# Altium schematic symbol library electronpowered.SchLib: 132 symbols
Pins are listed as number, name and electrical type; pins without a type are passive.

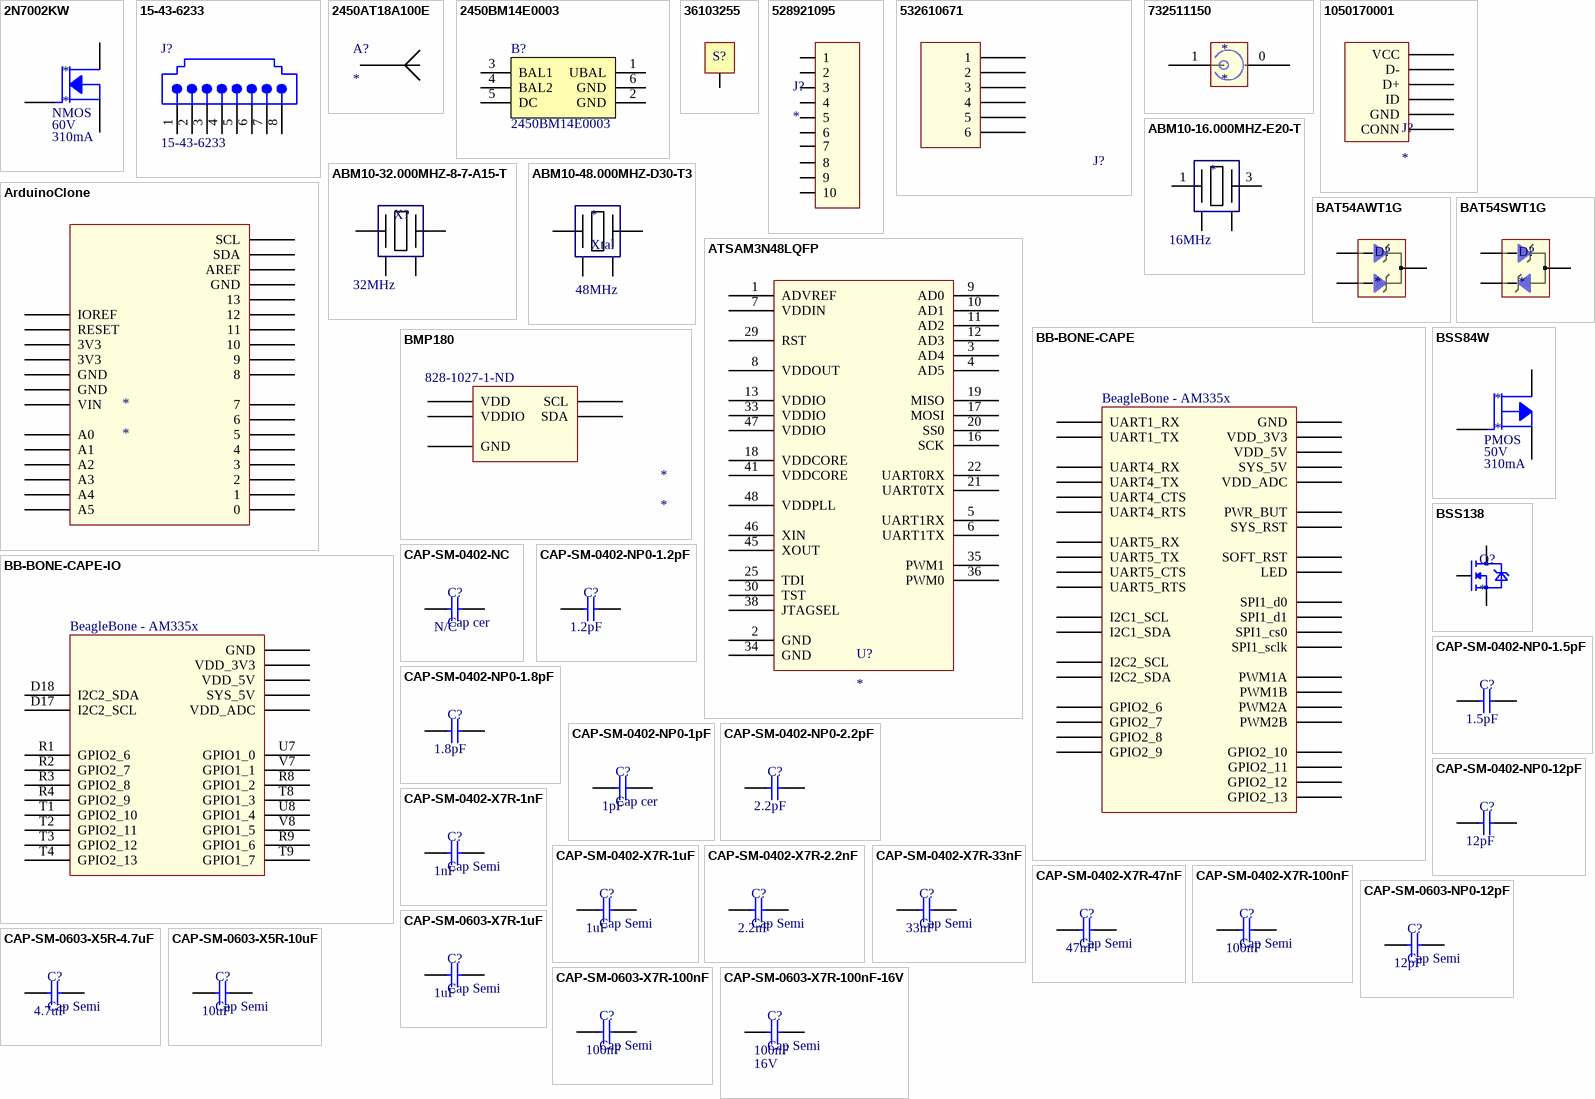
[diagram p0: symbols 2N7002KW to CAP-SM-0603-X7R-100nF-16V]

## 2N7002KW
designator *  Vdss: 60V  Id: 310mA  Type: NMOS
FET SM NCH 60V 310mA SOT323; Supplier 1: Digi-Key; Supplier Part Number 1: 2N7002KWCT-ND
footprint SOT-323
pins: 1, 2, 3

## 15-43-6233
designator J?
CONN TH RJ45 RA flange Mount PCB Jack; Ports: 1; Positions/Loaded: Port1 - 8 Keyed/8; PerformanceCategory: 3; PCB_Mounting: Thru-Hole; DrillSize: Nominal, Rounded to nearest 0.05mm; PCB_Layout: Complies with Manufacturer's Recommendation.; Published: 25-Jun-2002; DatasheetDocument: 18-Dec-2001; PackageDocument: 18-Dec-2001; PackageReference: 15-43-6233; Publisher: Altium Limited; ComponentLink1Description: Manufacturer Link; ComponentLink1URL: http://www.molex.com/
signal-integrity model Modular Jack
footprint RJ-45 Header (Connector; PCB Jack, Thru-Hole; 1-Port; Unshielded without Lightpipes; Right Angle)
pins: 1, 2, 3, 4, 5, 6, 7, 8

## 2450AT18A100E
designator A?
RF ANT SM CHIP 2.4GHZ; Supplier 1: Farnell; Supplier 2: Digi-Key; Supplier Part Number 1: 1885496; Supplier Part Number 2: 712-1005-1-ND
footprint 2450AT18A100E (ANTENNA CHIP 2.4GHZ)
pins: 1

## 2450BM14E0003
designator B?
IC BALUN nRF51822 2.45 GHz; Manufacturer: Johanson Technology; Note: Optimized for nRF51x22-QFAA; Artikkelnr Noca: N.A.; Part Number: 2450BM14E0003; Manufacturer Part Number: 2450BM14E0003; Datasheet: *; Footprint: BAL-0603-6pin; LatestRevisionDate: 2014-03-31; Pin Count: 6; Publisher: Nordic Semiconductor; Published: 2013-10-06; Value: 2450BM14E0003; Supplier: *; Supplier part number: *; 2nd source Supplier: *; 2nd source part number: *
footprint 2450BM14E0003
pins: 1 UBAL, 2 GND, 3 BAL1, 4 BAL2, 5 DC, 6 GND (power)

## 36103255
designator S?  (value not drawn)
SHIELD RF SMT 25X25MM
footprint 36103255 (WURTH RF SHIELD 25x25)
pins: 0

## 528921095
designator J?
CONN SMT FPC 0.5MM 10POS 528921095
footprint MOLEX-528921095 (CONN FPC 10POS 0.5MM)
pins: 1, 2, 3, 4, 5, 6, 7, 8, 9, 10

## 532610671
designator J?  (value not drawn)
CONN SM PICOBLADE 6POS
footprint MOLEX -532610671
pins: 1, 2, 3, 4, 5, 6

## 732511150
designator *
CONN SMA PCB EDGE MOLEX 73251-1150
footprint MOLEX_732511150 (SMA EDGE)
pins: 0 GND, 1 SIG

## 1050170001
designator J?
CONN SM TH USB MICRO MODIFIED FOR DRILL; Details: Modified from reference footprint for standard drill hits (rather than slots)
footprint 1050170001 (CONN USB MICRO MOLEX MODIFIED FOR DRILL HITS)
pins: 0 CONN, 1 VCC, 2 D-, 3 D+, 4 ID, 5 GND

## ABM10-16.000MHZ-E20-T
designator *, comment value 16MHz  (hidden comment: Xtal)
XTAL SMT 2.5x2.0mm 16MHz; Load Capacitance: 10pF; Frequency Stability: 20ppm; Frequency Tolerance: 20ppm
footprint XTAL 2.5x2.0mm (XTAL 2.5x2.0mm Standard Package)
pins: 1, 2, 3, 4

## ABM10-32.000MHZ-8-7-A15-T
designator X?, comment value 32MHz  (hidden comment: Xtal)
XTAL SMT 2.5x2.0mm 32MHz; Load Capacitance: 8pF; Frequency Stability: 15ppm; Frequency Tolerance: 15ppm
footprint XTAL 2.5x2.0mm (XTAL 2.5x2.0mm Standard Package)
pins: 1, 2, 3, 4

## ABM10-48.000MHZ-D30-T3
designator *, comment Xtal  value 48MHz
XTAL SMT 2.5x2.0mm 48MHz; Load Capacitance: 10pF; Supplier 1: Digi-Key; Supplier 2: Mouser; Supplier Part Number 1: 535-10938-1-ND; Supplier Part Number 2: 815-ABM10-48-D30T3
footprint XTAL 2.5x2.0mm (XTAL 2.5x2.0mm Standard Package)
pins: 1, 2, 3, 4

## ArduinoClone
designator *
footprint ArduinoClone (Base for Arduino-like boards.)
pins: 0, 1, 2, 3, 3V3, 3V3, 4, 5, 6, 7, 8, 9, 10, 11, 12, 13, A0, A1, A2, A3, A4, A5, AREF, GND, GND, GND, IOREF, RESET, SCL, SDA, VIN

## ATSAM3N48LQFP
designator U?
IC Atmel Cortex-M3; Manufacturer Part Number: ATSAM3N48LQFP; Manufacturer: Atmel
footprint 48A_L (48-Pin Thin Quad Flat Pack 0.5 mm Pitch, IPC High Density)
pins: 1 ADVREF, 2 GND, 3 AD4, 4 AD5, 5 UART1RX, 6 UART1TX, 7 VDDIN, 8 VDDOUT, 9 AD0, 10 AD1, 11 AD2, 12 AD3, 13 VDDIO, 16 SCK, 17 MOSI, 18 VDDCORE, 19 MISO, 20 SS0, 21 UART0TX, 22 UART0RX, 25 TDI, 29 RST, 30 TST, 33 VDDIO, 34 GND, 35 PWM1, 36 PWM0, 38 JTAGSEL, 41 VDDCORE, 45 XOUT, 46 XIN, 47 VDDIO, 48 VDDPLL

## BAT54AWT1G
designator D?
IC SCHOTTKY RECTIFIER, 200mA, 30V, SOT-323; Supplier 1: Farnell; Supplier 2: Digi-Key; Supplier Part Number 1: 1861208; Supplier Part Number 2: BAT54AWT1GOSCT-ND
footprint SOT-323
pins: 1, 2, 3

## BAT54SWT1G
designator D?
IC SCHOTTKY RECTIFIER, 200mA, 30V, SOT-323; Supplier 1: Farnell; Supplier 2: Digi-Key; Supplier Part Number 1: 2101837; Supplier Part Number 2: BAT54SWT1GFSCT-ND
footprint SOT-323
pins: 1, 2, 3

## BB-BONE-CAPE
designator *
BeagleBone cape layout
footprint bone_cape_minimal
pins: A13 SPI1_sclk "SPI0_sclk", A16 I2C1_SCL, B13 SPI1_d0 "SPI0_d0", B16 I2C1_SDA, C12 SPI1_cs0 "SPI0_cs0", D12 SPI1_d1 "SPI0_d1", D15 UART1_TX, D16 UART1_RX, D17 I2C2_SCL, D18 I2C2_SDA, GND, PWR_BUT "PWR_BUT, active low.", R1 GPIO2_6 "UART0_RX", R2 GPIO2_7 "UART0_TX", R3 GPIO2_8 "UART0_CTS", R4 GPIO2_9 "UART0_RTS", SYS_5V, SYS_RST "System Reset", T1 GPIO2_10 "UART1_RX", T2 GPIO2_11 "UART1_TX", T3 GPIO2_12 "UART1_CTS", T4 GPIO2_13 "UART1_RTS", T10 PWM2B "UART1_RTS", T14 PWM1B "UART1_TX", T17 UART4_RX "UART0_RX", U1 UART5_TX "UART0_TX", U2 UART5_RX "UART0_RX", U7 SOFT_RST, U10 PWM2A "UART1_CTS", U14 PWM1A "UART1_RX", U17 UART4_TX "UART0_TX", V2 UART4_CTS "UART0_CTS", V3 UART4_RTS "UART0_RTS", V3 UART5_RTS "UART0_RTS", V4 UART5_CTS "UART0_CTS", V7 LED, VDD_3V3 "VDD_3V3EXP", VDD_5V, VDD_ADC "VDD_ADC(1.8v)"
text: BeagleBone - AM335x

## BB-BONE-CAPE-IO
designator *
BeagleBone Cape IO component
footprint bone_cape_minimal
pins: D17 I2C2_SCL, D18 I2C2_SDA, GND, R1 GPIO2_6, R2 GPIO2_7, R3 GPIO2_8, R4 GPIO2_9, R8 GPIO1_2, R9 GPIO1_6, SYS_5V, T1 GPIO2_10, T2 GPIO2_11, T3 GPIO2_12, T4 GPIO2_13, T8 GPIO1_3, T9 GPIO1_7, U7 GPIO1_0, U8 GPIO1_4, V7 GPIO1_1, V8 GPIO1_5, VDD_3V3 "VDD_3V3EXP", VDD_5V, VDD_ADC "VDD_ADC(1.8v)"
text: BeagleBone - AM335x

## BMP180
designator *  Supplier Part Number 1: 828-1027-1-ND
BMP180 Bosch pressure sensor; Supplier 1: Digi-Key
footprint BMP180; pin to pad GND>7 SCL>5 SDA>6 VDD>2 VDDIO>3
pins: GND, SCL, SDA, VDD, VDDIO

## BSS84W
designator *  Type: PMOS  Vdss: 50V  Id: 310mA
FET SM PCH 50V 130mA SOT323; Supplier 1: Digi-Key; Supplier 2: Farnell; Supplier Part Number 1: BSS84WDICT-ND; Supplier Part Number 2: 1713836
footprint SOT-323
pins: 1, 2, 3

## BSS138
designator Q?
FET SM NCH 50V 220mA SOT23-3L; Type: NMOS; Vdss: 50V; Id: 220mA
footprint SOT-23-3L (SOT-23-3Las used in BSS138)
pins: 1, 2, 3

## CAP-SM-0402-NC
designator C?, comment Cap cer  value N/C
CAP SM 0402 N/C; Tolerance: ±0.1pF
footprint SMT0402 (0402 foorprint SMT)
pins: 1, 2

## CAP-SM-0402-NP0-1.2pF
designator C?, comment value 1.2pF  (hidden comment: Cap cer)
CAP SM 0402 NP0 1.2pF ±0.1pF; Tolerance: ±0.1pF; Supplier 1: Digi-Key; Supplier 2: Farnell; Supplier Part Number 1: 490-8085-1-ND; Supplier Part Number 2: 1889198
footprint SMT0402 (0402 foorprint SMT)
pins: 1, 2

## CAP-SM-0402-NP0-1.5pF
designator C?, comment value 1.5pF  (hidden comment: Cap cer)
CAP SM 0402 NP0 1.5pF ± 0.1pF; Tolerance: ±0.1pF; Supplier 1: Digi-Key; Supplier 2: Farnell; Supplier Part Number 1: 490-8087-1-ND; Supplier Part Number 2: 1889201
footprint SMT0402 (0402 foorprint SMT)
pins: 1, 2

## CAP-SM-0402-NP0-1.8pF
designator C?, comment value 1.8pF  (hidden comment: Cap cer)
CAP SM 0402 NP0 1.8pF ± 0.1pF; Tolerance: ±0.1pF; Supplier 1: Farnell; Supplier 2: Digi-Key; Supplier Part Number 1: 1889202; Supplier Part Number 2: 490-8089-1-ND
footprint SMT0402 (0402 foorprint SMT)
pins: 1, 2

## CAP-SM-0402-NP0-1pF
designator C?, comment Cap cer  value 1pF
CAP SM 0402 NP0 1pF ±0.1pF; Tolerance: ±0.1pF; Supplier 1: Digi-Key; Supplier Part Number 1: 490-6073-1-ND
footprint SMT0402 (0402 foorprint SMT)
pins: 1, 2

## CAP-SM-0402-NP0-2.2pF
designator C?, comment value 2.2pF  (hidden comment: Cap cer)
CAP SM 0402 NP0 2.2pF ± 0.1pF; Tolerance: ±0.1pF; Supplier 1: Farnell; Supplier 2: Digi-Key; Supplier Part Number 1: 1889204; Supplier Part Number 2: 490-8092-1-ND
footprint SMT0402 (0402 foorprint SMT)
pins: 1, 2

## CAP-SM-0402-NP0-12pF
designator C?, comment value 12pF  (hidden comment: Cap cer)
CAP SM 0402 NP0 12pF 2%; Tolerance: ±2%; Supplier 1: Farnell; Supplier 2: Digi-Key; Supplier Part Number 1: 1889213; Supplier Part Number 2: 490-8078-1-ND
footprint SMT0402 (0402 foorprint SMT)
pins: 1, 2

## CAP-SM-0402-X7R-1nF
designator C?, comment Cap Semi  value 1nF
CAP SM 0402 X7R 1nF 10%; Tolerance: ±10%; Supplier 1: Digi-Key; Supplier Part Number 1: 490-6349-1-ND
footprint SMT0402 (0402 foorprint SMT)
pins: 1, 2

## CAP-SM-0402-X7R-1uF
designator C?, comment Cap Semi  value 1uF
CAP SM 0402 X7R 1uF 10%; Tolerance: ±10%; Supplier 1: Digi-Key; Supplier Part Number 1: 490-7195-1-ND
footprint SMT0402 (0402 foorprint SMT)
pins: 1, 2

## CAP-SM-0402-X7R-2.2nF
designator C?, comment Cap Semi  value 2.2nF
CAP SM 0402 X7R 2.2nF 10%; Tolerance: ±10%; Supplier 1: Digi-Key; Supplier Part Number 1: 490-6359-2-ND
footprint SMT0402 (0402 foorprint SMT)
pins: 1, 2

## CAP-SM-0402-X7R-33nF
designator C?, comment Cap Semi  value 33nF
CAP SM 0402 X7R 33nF 10%; Tolerance: ±10%; Supplier 1: Digi-Key; Supplier Part Number 1: 490-6345-1-ND
footprint SMT0402 (0402 foorprint SMT)
pins: 1, 2

## CAP-SM-0402-X7R-47nF
designator C?, comment Cap Semi  value 47nF
CAP SM 0402 X7R 47nF 10%; Tolerance: ±10%; Supplier 1: Digi-Key; Supplier Part Number 1: 490-7762-1-ND
footprint SMT0402 (0402 foorprint SMT)
pins: 1, 2

## CAP-SM-0402-X7R-100nF
designator C?, comment Cap Semi  value 100nF
CAP SM 0402 X7R 100nF 10%; Tolerance: ±10%; Supplier 1: Digi-Key; Supplier 2: Farnell; Supplier Part Number 1: 490-1519-1-ND; Supplier Part Number 2: 8820023
footprint SMT0402 (0402 foorprint SMT)
pins: 1, 2

## CAP-SM-0603-NP0-12pF
designator C?, comment Cap Semi  value 12pF
CAP SM 0603 NP0 12pF 10%; Tolerance: ±10%
footprint SMT0603
pins: 1, 2

## CAP-SM-0603-X5R-4.7uF
designator C?, comment Cap Semi  value 4.7uF
CAP SM 0603 X5R 4.7uF 10%; Tolerance: ±10%; Supplier 1: Digi-Key; Supplier 2: Farnell; Supplier Part Number 1: 490-3297-1-ND; Supplier Part Number 2: 1907504
footprint SMT0603
pins: 1, 2

## CAP-SM-0603-X5R-10uF
designator C?, comment Cap Semi  value 10uF
CAP SM 0603 X5R 10uF 10%; Tolerance: ±10%; Supplier 1: Farnell; Supplier 2: Digi-Key; Supplier Part Number 1: 2366833; Supplier Part Number 2: 490-3896-1-ND
footprint SMT0603
pins: 1, 2

## CAP-SM-0603-X7R-1uF
designator C?, comment Cap Semi  value 1uF
CAP SM 0603 X7R 1uF 10%; Tolerance: ±10%; Supplier 1: Digi-Key; Supplier 2: Farnell; Supplier Part Number 1: 490-5307-1-ND; Supplier Part Number 2: 2366834
footprint SMT0603
pins: 1, 2

## CAP-SM-0603-X7R-100nF
designator C?, comment Cap Semi  value 100nF
CAP SM 0603 X7R 100nF 10%; Tolerance: ±10%; Supplier 1: Digi-Key; Supplier 2: Farnell; Supplier Part Number 1: 490-3167-1-ND; Supplier Part Number 2: 1775994RL
footprint SMT0603
pins: 1, 2

## CAP-SM-0603-X7R-100nF-16V
designator C?, comment Cap Semi  value 100nF  Voltage: 16V
CAP SM 0603 X7R 100nF 10% 16V; Tolerance: ±10%; Supplier 1: Digi-Key; Supplier 2: Farnell; Supplier Part Number 1: 490-1532-1-ND; Supplier Part Number 2: 2396550
footprint SMT0603
pins: 1, 2

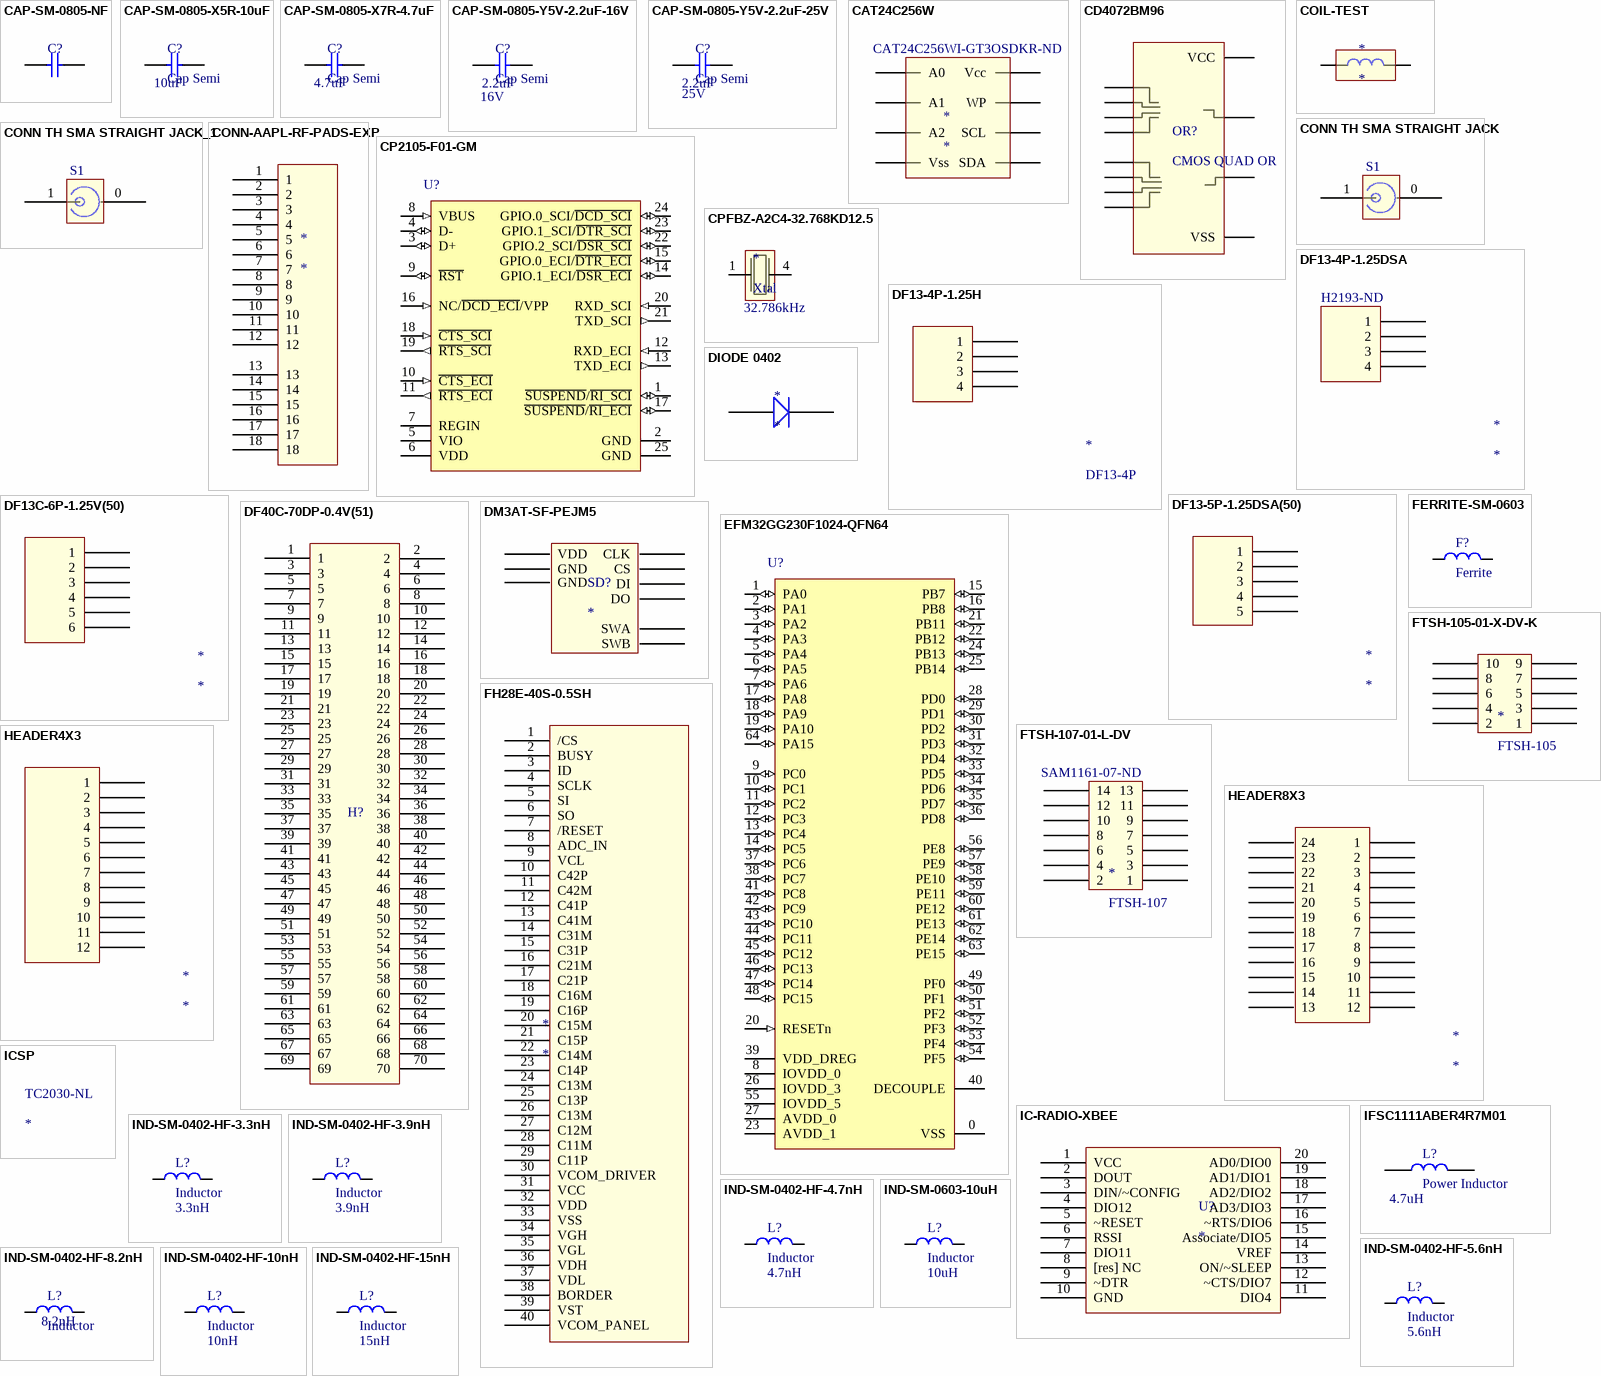
[diagram p1: symbols CAP-SM-0805-NF to IND-SM-0603-10uH]

## CAP-SM-0805-NF
designator C?
CAP SM 0805 NF
footprint SMT0805
pins: 1, 2

## CAP-SM-0805-X5R-10uF
designator C?, comment Cap Semi  value 10uF
CAP SM 0805 X5R 10uF 10%; Tolerance: ±10%; Supplier 1: Digi-Key; Supplier 2: Farnell; Supplier Part Number 1: 490-1709-1-ND; Supplier Part Number 2: 2396552
footprint SMT0805
pins: 1, 2

## CAP-SM-0805-X7R-4.7uF
designator C?, comment Cap Semi  value 4.7uF
CAP SM 0805 X7R 4.7uF 10%; Tolerance: ±10%; Supplier 1: Digi-Key; Supplier 2: Farnell; Supplier Part Number 1: 490-4522-1-ND; Supplier Part Number 2: 1797015RL
footprint SMT0805
pins: 1, 2

## CAP-SM-0805-Y5V-2.2uF-16V
designator C?, comment Cap Semi  value 2.2uF  Voltage Rating: 16V
CAP SM 0805 Y5V MLCC 2.2uF 16V 10%; Tolerance: ±10%; Supplier 1: Digi-Key; Supplier 2: Farnell; Supplier Part Number 1: 490-1741-1-ND; Supplier Part Number 2: 1828852RL
footprint SMT0805
pins: 1, 2

## CAP-SM-0805-Y5V-2.2uF-25V
designator C?, comment Cap Semi  value 2.2uF  Voltage Rating: 25V
CAP SM 0805 Y5V MLCC 2.2uF 25V 10%; Tolerance: ±10%; Supplier 1: Digi-Key; Supplier 2: Farnell; Supplier Part Number 1: 490-1733-1-ND; Supplier Part Number 2: 9527702
footprint SMT0805
pins: 1, 2

## CAT24C256W
designator *  Supplier Part Number 1: CAT24C256WI-GT3OSDKR-ND
IC EEPROM (Beaglebone standard); Supplier 1: Digi-Key
footprint SOIC8N (Small Outline; 8 Leads; Body Width 3.9 mm; Pitch 1.27 mm)
pins: 1 A0, 2 A1, 3 A2, 4 Vss, 5 SDA, 6 SCL, 7 WP, 8 Vcc

## CD4072BM96
designator OR?, comment CMOS QUAD OR
IC LOGIC GATE DUAL QUAD OR; Supplier 1: Digi-Key; Supplier 2: Farnell; Supplier Part Number 1: 296-31518-1-ND; Supplier Part Number 2: 1753434
footprint 14SOIC
pins: 1, 1, 2, 3, 4, 7 VSS, 9, 10, 11, 12, 13, 14 VCC

## COIL-TEST
designator *
footprint TEST_COIL
pins: 1, 2

## CONN TH SMA STRAIGHT JACK
designator S1  (value not drawn)
Manufacturer Part: SPC20113; Component Name: TH COAX SMA STRAIGHT JACK SPC20113; Placement: PTH; Notes: Does schematic symbol need JST and size info? Should it just be position?; Key: CONNECTOR26; Creator: Ryan Kurte; Status: Prototype
footprint CONN_TH_RF_SMA
footprint CONN_TH_RF_SMA_REFLOW
pins: 0 GND, 1 SIG

## CONN TH SMA STRAIGHT JACK_1
designator S1, comment CONN TH SMA STRAIGHT JACK  (value not drawn)
Manufacturer Part: SPC20113; Component Name: TH COAX SMA STRAIGHT JACK SPC20113; Placement: PTH; Notes: Does schematic symbol need JST and size info? Should it just be position?; Key: CONNECTOR26; Creator: Ryan Kurte; Status: Prototype
footprint CONN_TH_RF_SMA
footprint CONN_TH_RF_SMA_REFLOW
pins: 0 GND, 1 SIG

## CONN-AAPL-RF-PADS-EXP
designator *
footprint APPLE-RF-CONN (Apple RF connector pad footprint)
pins: 1, 2, 3, 4, 5, 6, 7, 8, 9, 10, 11, 12, 13, 14, 15, 16, 17, 18

## CP2105-F01-GM
designator U?
Single-Chip USB to Dual UART Bridge, 5 Dig I/O Pins, Internal Oscillator, 296 Bytes EEPROM, -40 to 85 degC, 24-pin QFN; Manufacturer: Silicon Labs; PartNumber: CP2105-F01-GM; Internal Oscillator: TRUE; Sub-Family: USB Bridges; DatasheetVersion: Rev. 1.0; PackageReference: QFN-24; PackageDescription: 24-Pin Quad-Flat No-Leads Package, Body 4 x 4 mm, Pitch 0.5 mm; Supplier 1: Digi-Key; Supplier Part Number 1: 336-2009-5-ND; Supplier 2: Mouser; Supplier Part Number 2: 634-CP2105-F01-GM; EEPROM: 296 Bytes; Mounting Technology: Surface Mount; Code_JEDEC: MO-220; Code_IPC: J-STD-020; ComponentLink1Description: Manufacturer URL; ComponentLink1URL: http://www.silabs.com/; ComponentLink2Description: Datasheet; ComponentLink2URL: http://www.silabs.com/Support%20Documents/TechnicalDocs/CP2105.pdf; ComponentLink3Description: Package Specification; ComponentLink3URL: http://www.silabs.com/Support%20Documents/TechnicalDocs/C8051F93x-92x.pdf
footprint SLAB-QFN-24-2675x2675TP_N (QFN, 24-Leads, Body 4x4mm, Pitch 0.5mm, Thermal Pad 2.68x2.68mm, IPC Medium Density)
pins: 1 ~{SUSPEND}/~{RI_SCI} (io), 2 GND (power) "Ground. Must be tied to ground.", 3 D+ (io) "USB D+", 4 D- (io) "USB D-", 5 VIO (power) "I/O Supply Voltage Input.", 6 VDD (power) "Power Supply Voltage Input. Voltage Regulator Output. See Section 10.", 7 REGIN (power) "5 V Regulator Input. This pin is the input to the on-chip voltage regulator.", 8 VBUS (in) "VBUS Sense Input. This pin should be connected to the VBUS signal of a USB network.", 9 ~{RST} (io) "Device Reset. Open-drain output of internal POR or VDD monitor. An external source can initiate a system reset by driving this pin low for the time specified in Table 4.", 10 ~{CTS_ECI} (in) "Clear To Send control input (active low) for the Enhanced Comm Interface.", 11 ~{RTS_ECI} (out) "Ready to Send control output (active low) for the Enhanced Comm Interface.", 12 RXD_ECI (in) "Asynchronous data input (UART Receive) for the Enhanced Comm Interface.", 13 TXD_ECI (out) "Asynchronous data output (UART Transmit) for the Enhanced Comm Interface.", 14 GPIO.1_ECI/~{DSR_ECI} (io), 15 GPIO.0_ECI/~{DTR_ECI} (io), 16 NC/~{DCD_ECI}/VPP (in), 17 ~{SUSPEND}/~{RI_ECI} (io), 18 ~{CTS_SCI} (in) "Clear To Send control input (active low) for the Standard Comm Interface.", 19 ~{RTS_SCI} (out) "Ready to Send control output (active low) for the Standard Comm Interface.", 20 RXD_SCI (in) "Asynchronous data input (UART Receive) for the Standard Comm Interface.", 21 TXD_SCI (out) "Asynchronous data output (UART Transmit) for the Standard Comm Interface.", 22 GPIO.2_SCI/~{DSR_SCI} (io), 23 GPIO.1_SCI/~{DTR_SCI} (io), 24 GPIO.0_SCI/~{DCD_SCI} (io), 25 GND (power)

## CPFBZ-A2C4-32.768KD12.5
designator *, comment Xtal  value 32.786kHz
XTAL TUNING 32.786kHz CPFB; Supplier 1: Digi-Key; Supplier Part Number 1: 370-1056-1-ND
footprint CPFB (CPF Crystal)
pins: 1, 4

## DF13-4P-1.25DSA
designator *  Supplier Part Number 1: H2193-ND
CONN SM DF13 4-POS SKT; Supplier 1: Digi-Key
footprint DF13C4P
footprint DF13-4P (4 Pin DF13 through hole)
pins: 1, 2, 3, 4

## DF13-4P-1.25H
designator *, comment DF13-4P
CONN SM DF13 4P RA 1.25H; Supplier 1: Farnell; Supplier 2: Digi-Key; Supplier Part Number 1: 1324926; Supplier Part Number 2: H3352-ND
footprint DF134-4P SMT R/A (CONN HEADER 4POS 1.25MM R/A TIN)
pins: 1, 2, 3, 4

## DF13-5P-1.25DSA(50)
designator *
CONN SM DF13 5POS SKT
footprint DF13-5P (5 Pin DF13 through hole)
pins: 1, 2, 3, 4, 5

## DF13C-6P-1.25V(50)
designator *
CONN SM DF13C 6P
footprint DF13C6P
footprint DF13-6P (6 Pin DF13 through hole)
pins: 1, 2, 3, 4, 5, 6

## DF40C-70DP-0.4V(51)
designator H?  (value not drawn)
CONN RCPT SM HDR 70POS 0.4MM SMD
footprint DF40C(2.0)-70DS-0.4V(51)
pins: 1, 2, 3, 4, 5, 6, 7, 8, 9, 10, 11, 12, 13, 14, 15, 16, 17, 18, 19, 20, 21, 22, 23, 24, 25, 26, 27, 28, 29, 30, 31, 32, 33, 34, 35, 36, 37, 38, 39, 40, 41, 42, 43, 44, 45, 46, 47, 48, 49, 50, 51, 52, 53, 54, 55, 56, 57, 58, 59, 60, 61, 62, 63, 64, 65, 66, 67, 68, 69, 70

## DIODE 0402
designator *
pins: 0, 1

## DM3AT-SF-PEJM5
designator SD?
CONN SM MicroSD; Supplier 1: Farnell; Supplier 2: Digi-Key; Supplier Part Number 1: 1764374; Supplier Part Number 2: HR1964CT-ND
footprint DM3AT-SF-PEJM5 (Hirose uSD connector SMT)
pins: 1 CS, 2 DI, 3 GND, 4 VDD, 5 CLK, 6 GND, 7 DO, A SWA, B SWB

## EFM32GG230F1024-QFN64
designator U?
EFM32 Giant Gecko, M3 ARM Cortex CPU, 1024 KB Flash, 128 KB RAM, 1.85 - 3.8 V Supply, 48 MHz Max Speed, -40 to 85 degC, 64-Pin QFN, RoHS Compliant; Generic Part Number: EFM32GG230; PartNumber: EFM32GG230F1024-QFN64; Flash (KB): 1024; GPIO: 56; LESENSE: Y; Max Speed (MHz): 48; OPAMPS: 3; RAM (KB): 128; DatasheetVersion: Rev 1.00; PackageVersion: Rev. 98SPP64048A_XO1_08MAR2011; PackageReference: QFN64; PackageDescription: 64-Pin Quad Flat No-Lead, Body 9 x 9 mm, Pitch 0.5 mm; Supplier 1: Digi-Key; Supplier Part Number 1: 914-1043-1-ND; ARM Cortex CPU: M3; Subcategory: EFM32 Giant Gecko; Supply Voltage (V): 1.85 - 3.8; Mounting Technology: Surface Mount; ComponentLink1Description: Manufacturer URL; ComponentLink1URL: http://www.energymicro.com/; ComponentLink2Description: Datasheet; ComponentLink2URL: http://cdn.energymicro.com/dl/devices/pdf/d0035_efm32gg230_datasheet.pdf; ComponentLink3Description: Package Specification; ComponentLink3URL: http://cdn.energymicro.com/dl/devices/pdf/d0005_efm32g230_datasheet.pdf
footprint ENMR-QFN64_N (QFN, 64-Leads, Body 9x9mm, Pitch 0.5mm, IPC Medium Density)
pins: 0 VSS (power) "Ground", 1 PA0 (io) "TIM0_CC0#0/1/4, LEU0_RX#4, I2C0_SDA#0, PRS_CH0#0, GPIO_EM4WU0", 2 PA1 (io) "TIM0_CC1#0/1, I2C0_SCL#0, CMU_CLK1#0, PRS_CH1#0", 3 PA2 (io) "TIM0_CC2#0/1, CMU_CLK0#0, ETM_TD0#3", 4 PA3 (io) "TIM0_CDTI0#0, LES_ALTEX2#0, ETM_TD1#3", 5 PA4 (io) "TIM0_CDTI1#0, LES_ALTEX3#0, ETM_TD2#3", 6 PA5 (io) "TIM0_CDTI2#0, LEU1_TX#1, LES_ALTEX4#0, ETM_TD3#3", 7 PA6 (io) "LEU1_RX#1, ETM_TCLK#3, GPIO_EM4WU1", 8 IOVDD_0 (power) "Digital IO power supply 0.", 9 PC0 (io) "DAC0_OUT0ALT#0/OPAMP_OUT0ALT, ACMP0_CH0, TIM0_CC1#4, PCNT0_S0IN#2, US0_TX#5, US1_TX#0, I2C0_SDA#4, LES_CH0#0, PRS_CH2#0", 10 PC1 (io) "DAC0_OUT0ALT#1/OPAMP_OUT0ALT, ACMP0_CH1, TIM0_CC2#4, PCNT0_S1IN#2, US0_RX#5, US1_RX#0, I2C0_SCL#4, LES_CH1#0, PRS_CH3#0", 11 PC2 (io) "DAC0_OUT0ALT#2/OPAMP_OUT0ALT, ACMP0_CH2, TIM0_CDTI0#4, US2_TX#0, LES_CH2#0", 12 PC3 (io) "DAC0_OUT0ALT#3/OPAMP_OUT0ALT, ACMP0_CH3, TIM0_CDTI1#4, US2_RX#0, LES_CH3#0", 13 PC4 (io) "DAC0_P0#0/OPAMP_P0, ACMP0_CH4, TIM0_CDTI2#4, LETIM0_OUT0#3, PCNT1_S0IN#0, US2_CLK#0, I2C1_SDA#0, LES_CH4#0", 14 PC5 (io) "DAC0_N0#0/OPAMP_N0, ACMP0_CH5, LETIM0_OUT1#3, PCNT1_S1IN#0, US2_CS#0, I2C1_SCL#0, LES_CH5#0", 15 PB7 (io) "LFXTAL_P, TIM1_CC0#3, US0_TX#4, US1_CLK#0", 16 PB8 (io) "LFXTAL_N, TIM1_CC1#3, US0_RX#4, US1_CS#0", 17 PA8 (io) "TIM2_CC0#0", 18 PA9 (io) "TIM2_CC1#0", 19 PA10 (io) "TIM2_CC2#0", 20 RESETn (in) "Reset input.Active low, with internal pull-up.", 21 PB11 (io) "DAC0_OUT0#0/OPAMP_OUT0, TIM1_CC2#3, LETIM0_OUT0#1, I2C1_SDA#1", 22 PB12 (io) "DAC0_OUT1#0/OPAMP_OUT1, LETIM0_OUT1#1, I2C1_SCL#1", 23 AVDD_1 (power) "Analog power supply 1 .", 24 PB13 (io) "HFXTAL_P, US0_CLK#4/5, LEU0_TX#1", 25 PB14 (io) "HFXTAL_N, US0_CS#4/5, LEU0_RX#1", 26 IOVDD_3 (power) "Digital IO power supply 3.", 27 AVDD_0 (power) "Analog power supply 0", 28 PD0 (io) "ADC0_CH0, DAC0_OUT0ALT#4/OPAMP_OUT0ALT, DAC0_OUT2#1/PCNT2_S0IN#0, US1_TX#1, OPAMP_OUT2", 29 PD1 (io) "ADC0_CH1, DAC0_OUT1ALT#4/OPAMP_OUT1ALT, TIM0_CC0#3, PCNT2_S1IN#0, US1_RX#1, DBG_SWO#2", 30 PD2 (io) "ADC0_CH2, TIM0_CC1#3, US1_CLK#1, DBG_SWO#3", 31 PD3 (io) "ADC0_CH3, DAC0_N2#0/OPAMP_N2, TIM0_CC2#3, US1_CS#1, ETM_TD1#0/2", 32 PD4 (io) "ADC0_CH4, DAC0_P2#0/OPAMP_P2, LEU0_TX#0, ETM_TD2#0/2", 33 PD5 (io) "ADC0_CH5, DAC0_OUT2#0/OPAMP_OUT2, LEU0_RX#0, ETM_TD3#0/2", 34 PD6 (io) "ADC0_CH6, DAC0_P1#0/OPAMP_P1, TIM1_CC0#4, LETIM0_OUT0#0, PCNT0_S0IN#3, US1_RX#2, I2C0_SDA#1, LES_ALTEX0#0, ACMP0_O#2, ETM_TD0#0", 35 PD7 (io) "ADC0_CH7, DAC0_N1#0/OPAMP_N1, TIM1_CC1#4, LETIM0_OUT1#0, PCNT0_S1IN#3, US1_TX#2, I2C0_SCL#1, CMU_CLK0#2, LES_ALTEX1#0, ACMP1_O#2, ETM_TCLK#0", 36 PD8 (io) "BU_VIN, CMU_CLK1#1", 37 PC6 (io) "ACMP0_CH6, LEU1_TX#0, I2C0_SDA#2, LES_CH6#0, ETM_TCLK#2", 38 PC7 (io) "ACMP0_CH7, LEU1_RX#0, I2C0_SCL#2, LES_CH7#0, ETM_TD0#2", 39 VDD_DREG (power) "Power supply for on-chip voltage regulator.", 40 DECOUPLE "Decouple output for on-chip voltage regulator. An external capacitance of size CDECOUPLE is required at this pin.", 41 PC8 (io) "ACMP1_CH0, TIM2_CC0#2, US0_CS#2, LES_CH8#0", 42 PC9 (io) "ACMP1_CH1, TIM2_CC1#2, US0_CLK#2, LES_CH9#0, GPIO_EM4WU2", 43 PC10 (io) "ACMP1_CH2, TIM2_CC2#2, US0_RX#2, LES_CH10#0", 44 PC11 (io) "ACMP1_CH3, US0_TX#2, LES_CH11#0", 45 PC12 (io) "DAC0_OUT1ALT#0/OPAMP_OUT1ALT, ACMP1_CH4, CMU_CLK0#1, LES_CH12#0", 46 PC13 (io) "DAC0_OUT1ALT#1/OPAMP_OUT1ALT, ACMP1_CH5, TIM0_CDTI0#1/3, TIM1_CC0#0, TIM1_CC2#4, PCNT0_S0IN#0, LES_CH13#0", 47 PC14 (io) "DAC0_OUT1ALT#2/OPAMP_OUT1ALT, ACMP1_CH6, TIM0_CDTI1#1/3, TIM1_CC1#0, PCNT0_S1IN#0, US0_CS#3, LES_CH14#0", 48 PC15 (io) "DAC0_OUT1ALT#3/OPAMP_OUT1ALT, ACMP1_CH7, TIM0_CDTI2#1/3, TIM1_CC2#0, US0_CLK#3, LES_CH15#0, DBG_SWO#1", 49 PF0 (io) "TIM0_CC0#5, LETIM0_OUT0#2, US1_CLK#2, LEU0_TX#3, I2C0_SDA#5, DBG_SWCLK#0/1/2/3", 50 PF1 (io) "TIM0_CC1#5, LETIM0_OUT1#2, US1_CS#2, LEU0_RX#3, I2C0_SCL#5, DBG_SWDIO#0/1/2/3, GPIO_EM4WU3", 51 PF2 (io) "TIM0_CC2#5, LEU0_TX#4, ACMP1_O#0, DBG_SWO#0, GPIO_EM4WU4", 52 PF3 (io) "TIM0_CDTI0#2/5, PRS_CH0#1, ETM_TD3#1", 53 PF4 (io) "TIM0_CDTI1#2/5, PRS_CH1#1", 54 PF5 (io) "TIM0_CDTI2#2/5, PRS_CH2#1", 55 IOVDD_5 (power) "Digital IO power supply 5", 56 PE8 (io) "PCNT2_S0IN#1, PRS_CH3#1", 57 PE9 (io) "PCNT2_S1IN#1", 58 PE10 (io) "TIM1_CC0#1, US0_TX#0, BOOTLOADER_TX", 59 PE11 (io) "TIM1_CC1#1, US0_RX#0, LES_ALTEX5#0, BOOTLOADER_RX", 60 PE12 (io) "TIM1_CC2#1, US0_RX#3, US0_CLK#0, I2C0_SDA#6, CMU_CLK1#2, LES_ALTEX6#0", 61 PE13 (io) "US0_TX#3, US0_CS#0, I2C0_SCL#6, LES_ALTEX7#0, ACMP0_O#0, GPIO_EM4WU5", 62 PE14 (io) "TIM3_CC0#0, LEU0_TX#2", 63 PE15 (io) "TIM3_CC1#0, LEU0_RX#2", 64 PA15 (io) "TIM3_CC2#0"

## FERRITE-SM-0603
designator F?, comment Ferrite
FERRITE SM 0603; Tolerance: ±20%; Imax: 50mA; Value: 10uH
footprint SMT0603
pins: 1, 2

## FH28E-40S-0.5SH
designator *
CONN RCPT SM FPC 40POS 0.5MM PITCH 3MM THICK; Supplier 1: Farnell; Supplier 2: Digi-Key; Supplier Part Number 1: 1518742; Supplier Part Number 2: HFV040CT-ND
footprint FH28E-40S-0.5SH (CONN FPC 40POS 0.5MM SMD GOLD)
pins: 1 /CS, 2 BUSY, 3 ID, 4 SCLK, 5 SI, 6 SO, 7 /RESET, 8 ADC_IN, 9 VCL, 10 C42P, 11 C42M, 12 C41P, 13 C41M, 14 C31M, 15 C31P, 16 C21M, 17 C21P, 18 C16M, 19 C16P, 20 C15M, 21 C15P, 22 C14M, 23 C14P, 24 C13M, 25 C13P, 26 C13M, 27 C12M, 28 C11M, 29 C11P, 30 VCOM_DRIVER, 31 VCC, 32 VDD, 33 VSS, 34 VGH, 35 VGL, 36 VDH, 37 VDL, 38 BORDER, 39 VST, 40 VCOM_PANEL

## FTSH-105-01-X-DV-K
designator *, comment FTSH-105
CONN HDR SM FTSH-105 10POS DUAL .05"; Supplier 1: Farnell; Supplier Part Number 1: 1667759; Supplier 2: Digi-Key; Supplier Part Number 2: FTSH-105-01-L-DV-K-ND
footprint FTSH-105-XX-X-DV-K (1.27mm pitch, 10 pin, terminal strip; vertical, SMT)
pins: 1, 2, 3, 4, 5, 6, 7, 8, 9, 10

## FTSH-107-01-L-DV
designator *, comment FTSH-107  Supplier Part Number 2: SAM1161-07-ND
CONN HDR SM FTSH-107 14POS DUAL .05"; Supplier 1: Farnell; Supplier Part Number 1: 2308439; Supplier 2: Digi-Key
footprint FTSH-107-XX-X-DV (1.27mm pitch, 14 pin, terminal strip; vertical, SMT)
pins: 1, 2, 3, 4, 5, 6, 7, 8, 9, 10, 11, 12, 13, 14

## HEADER4X3
designator *
footprint HEADER4X3
pins: 1, 2, 3, 4, 5, 6, 7, 8, 9, 10, 11, 12

## HEADER8X3
designator *
footprint HEADER8X3
pins: 1, 2, 3, 4, 5, 6, 7, 8, 9, 10, 11, 12, 13, 14, 15, 16, 17, 18, 19, 20, 21, 22, 23, 24

## IC-RADIO-XBEE
designator U?
CONN XBEE TH
footprint XBee Standard
pins: 1 VCC, 2 DOUT, 3 DIN/~CONFIG, 4 DIO12, 5 ~RESET, 6 RSSI, 7 DIO11, 8 [res] NC, 9 ~DTR, 10 GND, 11 DIO4, 12 ~CTS/DIO7, 13 ON/~SLEEP, 14 VREF, 15 Associate/DIO5, 16 ~RTS/DIO6, 17 AD3/DIO3, 18 AD2/DIO2, 19 AD1/DIO1, 20 AD0/DIO0

## ICSP
designator TC2030-NL
footprint TC2030-MCP
footprint TC2030-MCP-NL
1 alternate drawing of the same symbol

## IFSC1111ABER4R7M01
designator L?, comment Power Inductor  value 4.7uH
IND PWR SM 4.7uH; Supplier 1: Farnell; Supplier 2: Digi-Key; Supplier Part Number 1: 2352670; Supplier Part Number 2: 541-1400-1-ND
footprint IFSC1111ABER4R7M01 (Vishay Dale SMD power inductor)
pins: 1, 2

## IND-SM-0402-HF-3.3nH
designator L?, comment Inductor  value 3.3nH
IND SM 0402 CHIP HF 3.3nH 5%; Tolerance: ±5%; Supplier 1: Farnell; Supplier 2: Digi-Key; Supplier Part Number 1: 1343068; Supplier Part Number 2: 490-6561-1-ND
footprint SMT0402 (0402 foorprint SMT)
pins: 1, 2

## IND-SM-0402-HF-3.9nH
designator L?, comment Inductor  value 3.9nH
IND SM 0402 CHIP HF 3.9nH 5%; Tolerance: ±5%; Supplier 1: Digi-Key; Supplier 2: Farnell; Supplier Part Number 1: 490-1079-1-ND; Supplier Part Number 2: 1343070
footprint SMT0402 (0402 foorprint SMT)
pins: 1, 2

## IND-SM-0402-HF-4.7nH
designator L?, comment Inductor  value 4.7nH
IND SM 0402 CHIP HF 4.7nH 5%; Tolerance: ±5%; Supplier 1: Digi-Key; Supplier 2: Farnell; Supplier Part Number 1: 490-1080-1-ND; Supplier Part Number 2: 1343072
footprint SMT0402 (0402 foorprint SMT)
pins: 1, 2

## IND-SM-0402-HF-5.6nH
designator L?, comment Inductor  value 5.6nH
IND SM 0402 CHIP HF 5.6nH 5%; Tolerance: ±5%; Supplier 1: Farnell; Supplier 2: Digi-Key; Supplier Part Number 1: 1343074; Supplier Part Number 2: 490-1081-1-ND
footprint SMT0402 (0402 foorprint SMT)
pins: 1, 2

## IND-SM-0402-HF-8.2nH
designator L?, comment Inductor  value 8.2nH
IND SM 0402 CHIP HF 8.2nH 5%; Tolerance: ±5%; Supplier 1: Digi-Key; Supplier 2: Farnell; Supplier Part Number 1: 490-1084-1-ND; Supplier Part Number 2: 1343079
footprint SMT0402 (0402 foorprint SMT)
pins: 1, 2

## IND-SM-0402-HF-10nH
designator L?, comment Inductor  value 10nH
IND SM 0402 CHIP HF 10nH 5%; Tolerance: ±5%; Supplier 1: Digi-Key; Supplier 2: Farnell; Supplier Part Number 1: 490-1085-1-ND; Supplier Part Number 2: 1343081
footprint SMT0402 (0402 foorprint SMT)
pins: 1, 2

## IND-SM-0402-HF-15nH
designator L?, comment Inductor  value 15nH
IND SM 0402 CHIP HF 15nH 10%; Tolerance: ±10%; Supplier 1: Digi-Key; Supplier 2: Farnell; Supplier Part Number 1: 490-1087-1-ND; Supplier Part Number 2: 1343083
footprint SMT0402 (0402 foorprint SMT)
pins: 1, 2

## IND-SM-0603-10uH
designator L?, comment Inductor  value 10uH
IND SM 0603 10uH 20%; Imax: 50mA; Tolerance: ±20%; Supplier 1: Digi-Key; Supplier 2: Farnell; Supplier Part Number 1: 445-1025-1-ND; Supplier Part Number 2: 1669541
footprint SMT0603
pins: 1, 2

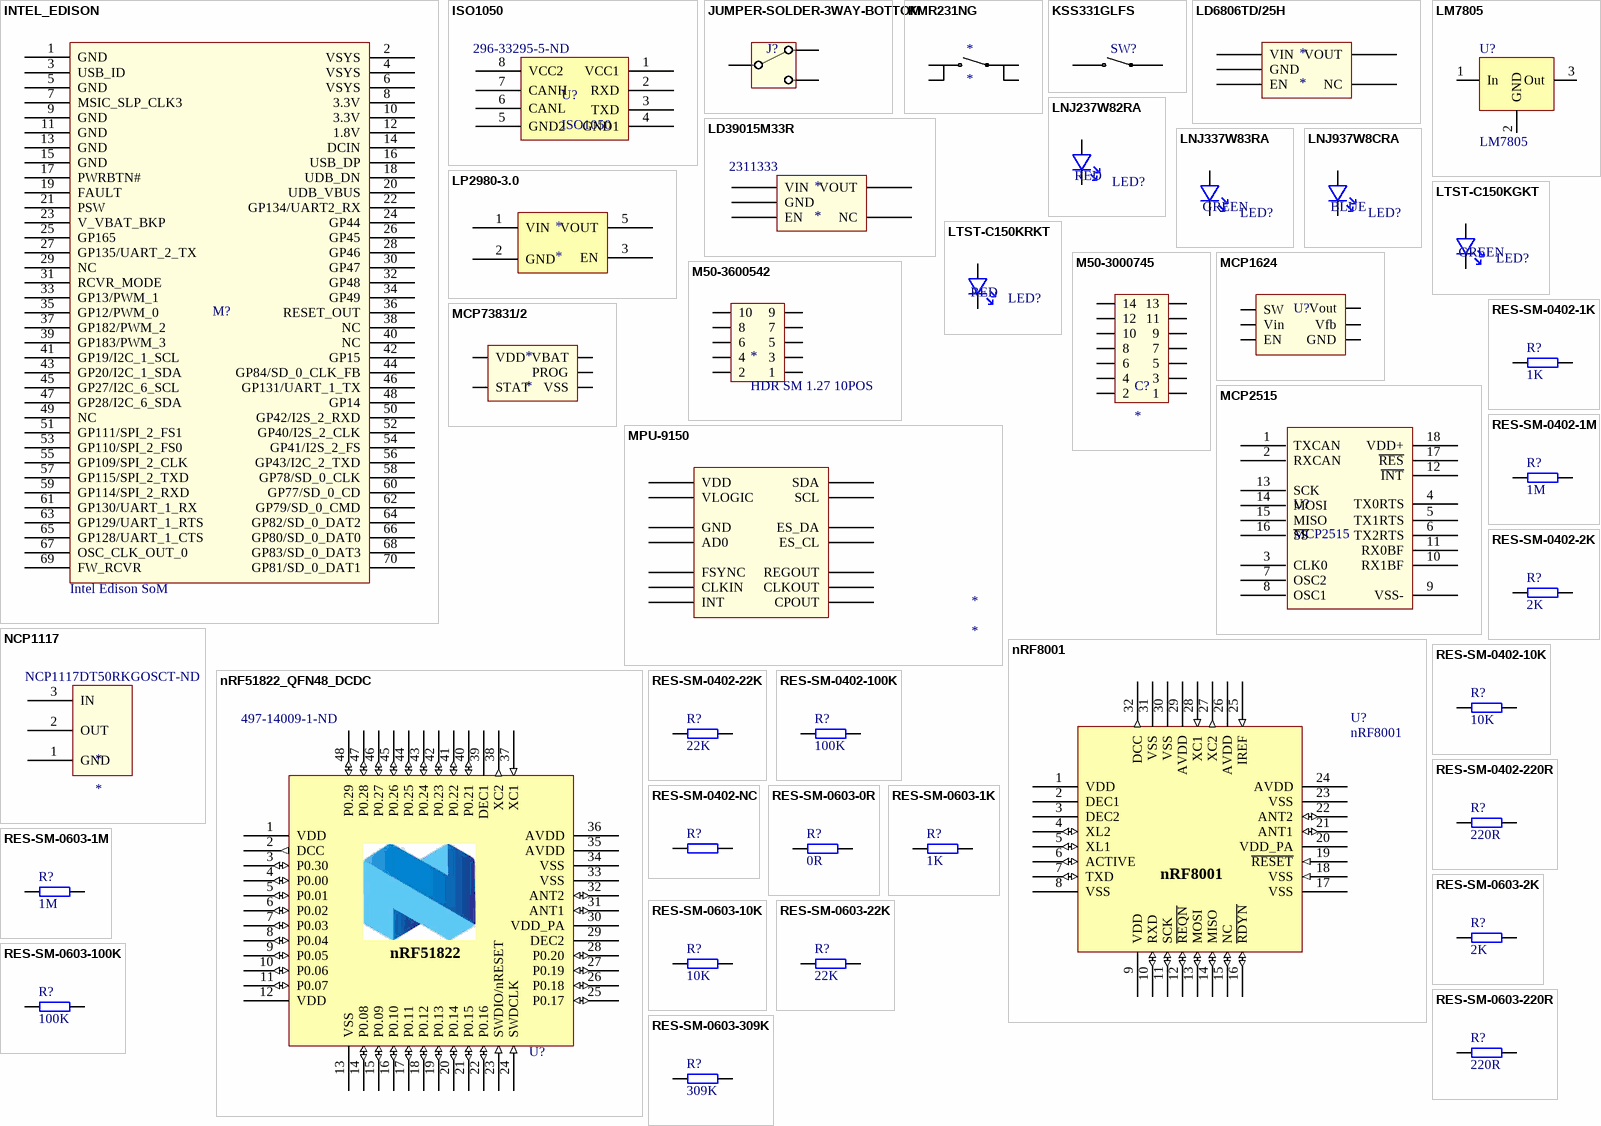
[diagram p2: symbols INTEL_EDISON to RES-SM-0603-309K]

## INTEL_EDISON
designator M?  value Intel Edison SoM  (hidden comment: *)
INTEL EDISON SoM
footprint INTEL-EDISON (Intel Edison SBC)
pins: 1 GND, 2 VSYS, 3 USB_ID, 4 VSYS, 5 GND, 6 VSYS, 7 MSIC_SLP_CLK3, 8 3.3V, 9 GND, 10 3.3V, 11 GND, 12 1.8V, 13 GND, 14 DCIN, 15 GND, 16 USB_DP, 17 PWRBTN#, 18 UDB_DN, 19 FAULT, 20 UDB_VBUS, 21 PSW, 22 GP134/UART2_RX, 23 V_VBAT_BKP, 24 GP44, 25 GP165, 26 GP45, 27 GP135/UART_2_TX, 28 GP46, 29 NC, 30 GP47, 31 RCVR_MODE, 32 GP48, 33 GP13/PWM_1, 34 GP49, 35 GP12/PWM_0, 36 RESET_OUT, 37 GP182/PWM_2, 38 NC, 39 GP183/PWM_3, 40 NC, 41 GP19/I2C_1_SCL, 42 GP15, 43 GP20/I2C_1_SDA, 44 GP84/SD_0_CLK_FB, 45 GP27/I2C_6_SCL, 46 GP131/UART_1_TX, 47 GP28/I2C_6_SDA, 48 GP14, 49 NC, 50 GP42/I2S_2_RXD, 51 GP111/SPI_2_FS1, 52 GP40/I2S_2_CLK, 53 GP110/SPI_2_FS0, 54 GP41/I2S_2_FS, 55 GP109/SPI_2_CLK, 56 GP43/I2C_2_TXD, 57 GP115/SPI_2_TXD, 58 GP78/SD_0_CLK, 59 GP114/SPI_2_RXD, 60 GP77/SD_0_CD, 61 GP130/UART_1_RX, 62 GP79/SD_0_CMD, 63 GP129/UART_1_RTS, 64 GP82/SD_0_DAT2, 65 GP128/UART_1_CTS, 66 GP80/SD_0_DAT0, 67 OSC_CLK_OUT_0, 68 GP83/SD_0_DAT3, 69 FW_RCVR, 70 GP81/SD_0_DAT1

## ISO1050
designator U?  Supplier Part Number 1: 296-33295-5-ND
ISOLATED CAN TRANSCEIVER; Supplier 1: Digi-Key
footprint SOG8 (Small Outline; 8 Leads; Body Width 6.4 mm; Pitch 2.54 mm)
pins: 1 VCC1, 2 RXD, 3 TXD, 4 GND1, 5 GND2, 6 CANL, 7 CANH, 8 VCC2

## JUMPER-SOLDER-3WAY-BOTTOM
designator J?  (value not drawn)
footprint JUMPER-SOLDER-3WAY-BOTTOM (3WAY SOLDER JUMPER BOTTOM LAYER)
pins: 0, 1, 2

## KMR231NG
designator *
PB SW SM TOP; Supplier 1: Digi-Key; Supplier Part Number 1: CKN10246CT-ND
footprint KMR231NG (PB SW SM TOP)
pins: 1, 2, 3, 4

## KSS331GLFS
designator SW?  (value not drawn)
PB SW SM RA; Supplier 1: Farnell; Supplier Part Number 1: 1201407; Supplier 2: Digi-Key; Supplier Part Number 2: 401-1101-1-ND
footprint KSS331G LFS (C & K COMPONENTS - KSS331G LFS - TACT SWITCH, SIDE ACTUATED, LOW)
pins: 1, 2

## LD6806TD/25H
designator *
IC LDO 2V5 200mA; Supplier 1: Farnell; Supplier 2: Digi-Key; Supplier Part Number 1: 2095497; Supplier Part Number 2: 568-10029-1-ND
footprint SOT753
pins: 1 VIN, 2 GND, 3 EN, 4 NC, 5 VOUT

## LD39015M33R
designator *  Supplier Part Number 1: 2311333
IC REG LIN 3V3 150MA; Supplier 1: Farnell
footprint SOT23-5 (SOT143-4 as used in SP0503BAHTG)
pins: 1 VIN, 2 GND, 3 EN, 4 NC, 5 VOUT

## LM7805
designator U?
IC REG LIN 5V 1A
footprint TO220V
pins: 1 In, 2 GND, 3 Out

## LNJ237W82RA
designator LED?, comment RED
LED SM 0603 RED 1V95 FWD VOLTAGE; Supplier 1: Digi-Key; Forward Voltage: 1V95; Supplier Part Number 1: LNJ237W82RACT-ND
footprint SMT0603P (Polarized 0603 footprint)
pins: 1, 2

## LNJ337W83RA
designator LED?, comment GREEN
LED SM 0603 GREEN 1V95 FWD VOLTAGE; Supplier 1: Digi-Key; Forward Voltage: 1V95; Supplier Part Number 1: LNJ337W83RACT-ND
footprint SMT0603P (Polarized 0603 footprint)
pins: 1, 2

## LNJ937W8CRA
designator LED?, comment BLUE
LED SM 0603 BLUE 2V9 FWD VOLTAGE; Forward Voltage: 2.9V; Supplier 1: Digi-Key; Supplier Part Number 1: LNJ937W8CRACT-ND
footprint SMT0603P (Polarized 0603 footprint)
pins: 1, 2

## LP2980-3.0
designator *
IC REG LDO 3V 50mA; Supplier 1: Farnell; Supplier Part Number 1: 9779612
footprint SOT23-5 (SOT143-4 as used in SP0503BAHTG)
pins: 1 VIN, 2 GND, 3 EN, 5 VOUT

## LTST-C150KGKT
designator LED?, comment GREEN
LED SM 1206 GREEN 2V2 FWD VOLTAGE; Forward Voltage: 2V2
footprint SMT1206-LED
pins: 1, 2

## LTST-C150KRKT
designator LED?, comment RED
LED SM 1206 RED 2V FWD VOLTAGE; Wavelength: 631nm; Forward Voltage: 2V
footprint SMT1206-LED
pins: 1, 2

## M50-3000745
designator C?
CONN RCPT 14POS DUAL .05" TH; Supplier 1: Digi-Key; Supplier Part Number 1: 952-1990-ND
footprint M50-3000745 (14 POS 1.27MM TH SKT/HDR)
pins: 1, 2, 3, 4, 5, 6, 7, 8, 9, 10, 11, 12, 13, 14

## M50-3600542
designator *, comment HDR SM 1.27 10POS
CONN HDR SM 10POS DUAL .05"; Supplier 1: Digi-Key; Supplier 2: Farnell; Supplier Part Number 1: 952-1389-ND; Supplier Part Number 2: 2120141
footprint M50-3600542 (1.27mm pitch, 10 pin, terminal strip; vertical, SMT)
pins: 1, 2, 3, 4, 5, 6, 7, 8, 9, 10

## MCP1624
designator U?
IC REG BOOST 2V0-5V5 500kHz
footprint SOT23-6 (SOT143-4 as used in SP0503BAHTG)
pins: 1 SW, 2 GND, 3 EN, 4 Vfb, 5 Vout, 6 Vin

## MCP2515
designator U?
IC CAN SPI INTERFACE
footprint TSSOP20 (Shrink Small Outline; 20 Leads; Body Width 4.4 mm; Pitch 0.65 mm)
pins: 1 TXCAN, 2 RXCAN, 3 CLK0, 4 TX0RTS, 5 TX1RTS, 6 TX2RTS, 7 OSC2, 8 OSC1, 9 VSS-, 10 RX1BF, 11 RX0BF, 12 ~{INT}, 13 SCK, 14 MOSI, 15 MISO, 16 ~{SS}, 17 ~{RES}, 18 VDD+

## MCP73831/2
designator *
IC LIPO CHARGE MANAGEMENT
footprint SOT23-5 (SOT143-4 as used in SP0503BAHTG)
pins: 1 STAT, 2 VSS, 3 VBAT, 4 VDD, 5 PROG

## MPU-9150
designator *
IC 9-DOF IMU
footprint LGA24-A; pin to pad AD0>9 CLKIN>1 CLKOUT>22 CPOUT>20 ES_CL>7 ES_DA>6 FSYNC>11 GND>15+17+18 INT>12 REGOUT>10 SCL>23 SDA>24 VDD>3+13 VLOGIC>8
pins: AD0, CLKIN, CLKOUT, CPOUT, ES_CL, ES_DA, FSYNC, GND, INT, REGOUT, SCL, SDA, VDD, VLOGIC

## NCP1117
designator *  Supplier Part Number 1: NCP1117DT50RKGOSCT-ND
IC REG 5V 1A DPAC; Supplier 1: Digi-Key
footprint SOT-223 (SOT-223/SC-73; 4 Leads; Body 6.7 x 7.3 mm, inc. leads (LxW max))
pins: 1 GND, 2 OUT, 3 IN

## nRF8001
designator U?
IC BLE(4.0); Manufacturer: Nordic Semiconductor; Note: nRF8001 - QFN32; Part Number: nRF8001; Manufacturer Part Number: *; Datasheet: *; Footprint: QFN-32; LatestRevisionDate: 2010-02-24; Pin Count: 32; Publisher: Nordic Semiconductor; Published: 2010-02-24; Value: nRF8001; Supplier: Nordic Semiconductor; Supplier part number: *; 2nd source Supplier: *; 2nd source part number: *; Artikkelnr Noca: *
footprint Nordic_QFN50P500X500X90-33N
pins: 1 VDD (power), 2 DEC1 (power), 3 DEC2 (power), 4 XL2 (io), 5 XL1 (io), 6 ACTIVE (io), 7 TXD (io), 8 VSS (power), 9 VDD (power), 10 RXD (io), 11 SCK (io), 12 ~{REQN} (io), 13 MOSI (io), 14 MISO (io), 15 NC (io), 16 ~{RDYN} (io), 17 VSS (power), 18 VSS (in), 19 ~{RESET} (in), 20 VDD_PA (power), 21 ANT1 (io), 22 ANT2 (io), 23 VSS (power), 24 AVDD (power), 25 IREF (in), 26 AVDD (power), 27 XC2 (out), 28 XC1 (in), 29 AVDD (power), 30 VSS (power), 31 VSS (power), 32 DCC (out), 33 GND hidden to GND

## nRF51822_QFN48_DCDC
designator U?, comment Supplier Part Number 1: 497-14009-1-ND  (hidden comment: nRF51822-QFAA)
Multi-protocol Bluetooth Low Energy and 2.4GHz proprietary system-on-chip; Part Number: nRF51822-Q48-6x6_DCDC; Manufacturer: Nordic Semiconductor; Note: nRF51822 - QFN48 6x6 0.4mm pitch; Artikkelnr Noca: 15079200; Manufacturer Part Number: nRF51822-QFAA; Datasheet: *; Footprint: QFN-48; LatestRevisionDate: 2012-07-10; Pin Count: 48; Publisher: Nordic Semiconductor; Published: 2012-07-08; Value: nRF51822-QFAA; Supplier: Nordic Semiconductor; Supplier part number: *; 2nd source Supplier: *; 2nd source part number: *; Supplier 1: Digi-Key
footprint NORDIC_QFN40P600X600X90-48N (Nordic QFN 40 pin footprint for nNRF51822)
pins: 1 VDD (power), 2 DCC (out), 3 P0.30 (io), 4 P0.00 (io), 5 P0.01 (io), 6 P0.02 (io), 7 P0.03 (io), 8 P0.04 (io), 9 P0.05 (io), 10 P0.06 (io), 11 P0.07 (io), 12 VDD (power), 13 VSS (power), 14 P0.08 (io), 15 P0.09 (io), 16 P0.10 (io), 17 P0.11 (io), 18 P0.12 (io), 19 P0.13 (io), 20 P0.14 (io), 21 P0.15 (io), 22 P0.16 (io), 23 SWDIO/nRESET (in), 24 SWDCLK (in), 25 P0.17 (io), 26 P0.18 (io), 27 P0.19 (io), 28 P0.20 (io), 29 DEC2 (power), 30 VDD_PA (power), 31 ANT1 (io), 32 ANT2 (io), 33 VSS (power), 34 VSS (power), 35 AVDD (power), 36 AVDD (power), 37 XC1 (in), 38 XC2 (out), 39 DEC1 (power), 40 P0.21 (io), 41 P0.22 (io), 42 P0.23 (io), 43 P0.24 (io), 44 P0.25 (io), 45 P0.26 (io), 46 P0.27 (io), 47 P0.28 (io), 48 P0.29 (io), 49 (power) hidden to GND
text: nRF51822

## RES-SM-0402-1K
designator R?, comment value 1K  (hidden comment: Resistor)
RES SM 0402 1K
footprint SMT0402 (0402 foorprint SMT)
pins: 1, 2

## RES-SM-0402-1M
designator R?, comment value 1M  (hidden comment: Resistor)
RES SM 0402 1M
footprint SMT0402 (0402 foorprint SMT)
pins: 1, 2

## RES-SM-0402-2K
designator R?, comment value 2K  (hidden comment: Resistor)
RES SM 0402 2K
footprint SMT0402 (0402 foorprint SMT)
pins: 1, 2

## RES-SM-0402-10K
designator R?, comment value 10K  (hidden comment: Resistor)
RES SM 0402 10K; Supplier 1: Digi-Key; Supplier 2: Farnell; Supplier Part Number 1: 541-10.0KYTR-ND; Supplier Part Number 2: 1798264
footprint SMT0402 (0402 foorprint SMT)
pins: 1, 2

## RES-SM-0402-22K
designator R?, comment value 22K  (hidden comment: Resistor)
RES SM 0402 22K
footprint SMT0402 (0402 foorprint SMT)
pins: 1, 2

## RES-SM-0402-100K
designator R?, comment value 100K  (hidden comment: Resistor)
RES SM 0402 100K
footprint SMT0402 (0402 foorprint SMT)
pins: 1, 2

## RES-SM-0402-220R
designator R?, comment value 220R  (hidden comment: Resistor)
RES SM 0402 220R
footprint SMT0402 (0402 foorprint SMT)
pins: 1, 2

## RES-SM-0402-NC
designator R?, comment Resistor  (value not drawn)
RES SM 0402 NC; Value: N/C
footprint SMT0402 (0402 foorprint SMT)
pins: 1, 2

## RES-SM-0603-0R
designator R?, comment value 0R  (hidden comment: Resistor)
RES SM 0603 0R
footprint SMT0603
pins: 1, 2

## RES-SM-0603-1K
designator R?, comment value 1K  (hidden comment: Resistor)
RES SM 0603 1K
footprint SMT0603
pins: 1, 2

## RES-SM-0603-1M
designator R?, comment value 1M  (hidden comment: Resistor)
RES SM 0603 1M
footprint SMT0603
pins: 1, 2

## RES-SM-0603-2K
designator R?, comment value 2K  (hidden comment: Resistor)
RES SM 0603 2K; Supplier 1: Digi-Key; Supplier 2: Farnell; Supplier Part Number 1: 541-2.00KHCT-ND; Supplier Part Number 2: 1127446
footprint SMT0603
pins: 1, 2

## RES-SM-0603-10K
designator R?, comment value 10K  (hidden comment: Resistor)
RES SM 0603 10K; Supplier 1: Farnell; Supplier 2: Digi-Key; Supplier Part Number 1: 9330399; Supplier Part Number 2: 541-10.0KHCT-ND
footprint SMT0603
pins: 1, 2

## RES-SM-0603-22K
designator R?, comment value 22K  (hidden comment: Resistor)
RES SM 0603 22K; Supplier 1: Farnell; Supplier 2: Digi-Key; Supplier Part Number 1: 1738922; Supplier Part Number 2: 541-22.0KHCT-ND
footprint SMT0603
pins: 1, 2

## RES-SM-0603-100K
designator R?, comment value 100K  (hidden comment: Resistor)
RES SM 0603 100K; Supplier 1: Farnell; Supplier 2: Digi-Key; Supplier Part Number 1: 1344361; Supplier Part Number 2: 541-100KHCT-ND
footprint SMT0603
pins: 1, 2

## RES-SM-0603-220R
designator R?, comment value 220R  (hidden comment: Resistor)
RES SM 0603 220R; Supplier 1: Farnell; Supplier 2: Digi-Key; Supplier Part Number 1: 1127454; Supplier Part Number 2: 541-220HCT-ND
footprint SMT0603
pins: 1, 2

## RES-SM-0603-309K
designator R?, comment value 309K  (hidden comment: Resistor)
RES SM 0603 309K
footprint SMT0603
pins: 1, 2

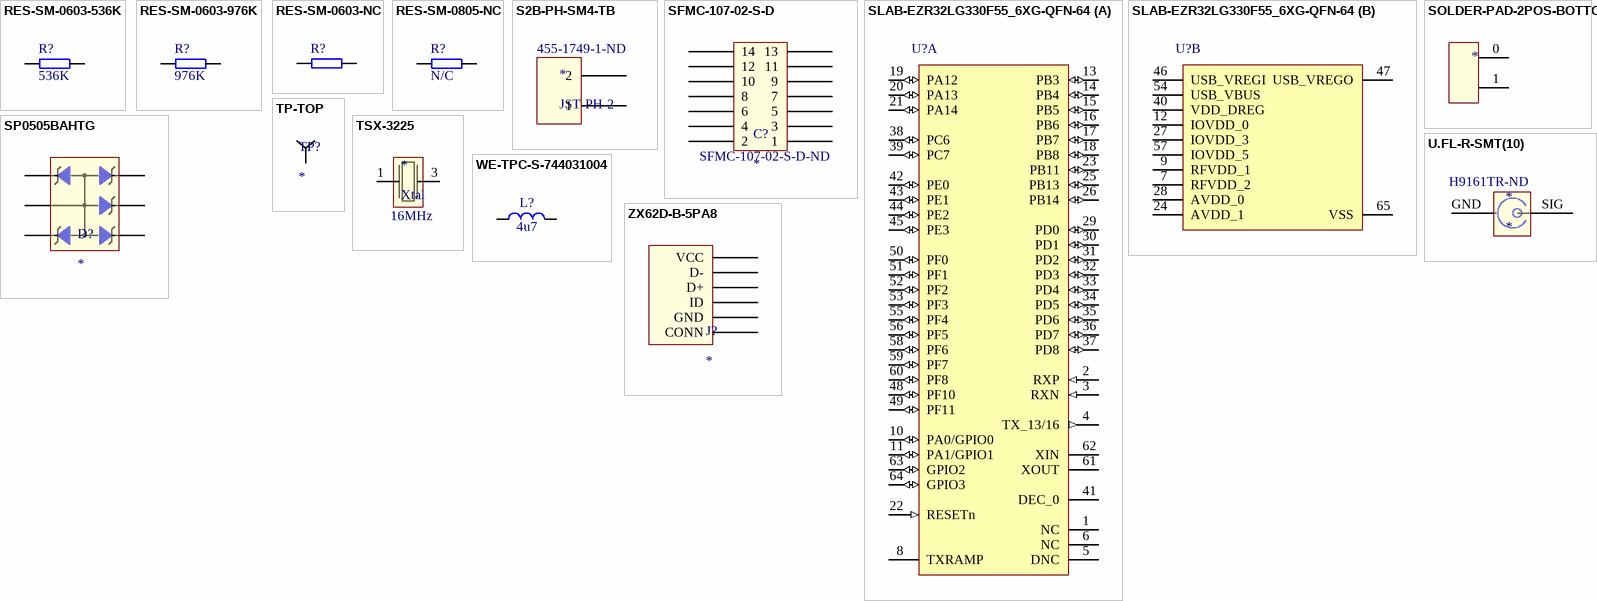
[diagram p3: symbols RES-SM-0603-536K to ZX62D-B-5PA8]

## RES-SM-0603-536K
designator R?, comment value 536K  (hidden comment: Resistor)
RES SM 0603 536K
footprint SMT0603
pins: 1, 2

## RES-SM-0603-976K
designator R?, comment value 976K  (hidden comment: Resistor)
RES SM 0603 976K
footprint SMT0603
pins: 1, 2

## RES-SM-0603-NC
designator R?, comment Resistor  (value not drawn)
RES SM 0603 NC; Value: N/C
footprint SMT0603
pins: 1, 2

## RES-SM-0805-NC
designator R?, comment value N/C  (hidden comment: Resistor)
RES SM 0805 N/C
footprint ece-CR2012-0805 (SM resistor)
pins: 1, 2

## S2B-PH-SM4-TB
designator *, comment JST-PH-2  Supplier Part Number 1: 455-1749-1-ND
CONN SM JST PH 2-POS; Supplier 1: Digi-Key
footprint JST-PH-2POS (JST-PH 2POS SM R/A 2.0mm)
pins: 1, 2

## SFMC-107-02-S-D
designator C?  Supplier Part Number 1: SFMC-107-02-S-D-ND
SFMC-107-02-S-D CONN RCPT 14POS DUAL .05" SMD; Supplier 1: Digi-Key
footprint SFMC-107-02 (Samtec SFMC 14 pos 1.27mm female SMD socket)
pins: 1, 2, 3, 4, 5, 6, 7, 8, 9, 10, 11, 12, 13, 14

## SLAB-EZR32LG330F55_6XG-QFN-64
designator U?
footprint SLAB-QFN-64_V (QFN, 64-Leads, Body 9.1x9.1mm, Pitch 0.5mm, Thermal Pad 7.55x7.55mm)
part A pins: 1 NC "No connect.", 2 RXP (in) "Differential RF Input Pin of the LNA. See application schematic for example matching network.", 3 RXN (in) "Differential RF Input Pin of the LNA. See application schematic for example matching network.", 4 TX_13/16 (out) "Transmit Output Pin (+13 dBm or +16 dBm) for R55, R60, R61, R67 and R69 variants. The PA output is an open-drain connection, so the L-C match must supply VDD (+3.3 VDC nominal) to this pin. Pin is DNC on the +20 dBm parts.", 5 DNC "Transmit Output Pin (+20 dBm) for R63, R68 and R69 variants. The PA output is an open-drain connection,so the L-C match must supply VDD (+3.3 VDC nominal) to this pin. Pin is DNC on the +13 dBm parts.", 6 NC "No connect.", 8 TXRAMP "Programmable Bias Output with Ramp Capability for External FET PA.", 10 PA0/GPIO0 (io), 11 PA1/GPIO1 (io), 13 PB3 (io), 14 PB4 (io), 15 PB5 (io), 16 PB6 (io), 17 PB7 (io), 18 PB8 (io), 19 PA12 (io), 20 PA13 (io), 21 PA14 (io), 22 RESETn (in) "Reset input, active low.To apply an external reset source to this pin, it is required to only drive this pin low during reset, and let the internal pull-up ensure that reset is released.", 23 PB11 (io), 25 PB13 (io), 26 PB14 (io), 29 PD0 (io), 30 PD1 (io), 31 PD2 (io), 32 PD3 (io), 33 PD4 (io), 34 PD5 (io), 35 PD6 (io), 36 PD7 (io), 37 PD8 (io), 38 PC6 (io), 39 PC7 (io), 41 DEC_0 "Decouple output for on-chip voltage regulator.", 42 PE0 (io), 43 PE1 (io), 44 PE2 (io), 45 PE3 (io), 48 PF10 (io), 49 PF11 (io), 50 PF0 (io), 51 PF1 (io), 52 PF2 (io), 53 PF3 (io), 55 PF4 (io), 56 PF5 (io), 58 PF6 (io), 59 PF7 (io), 60 PF8 (io), 61 XOUT "EZRadio peripheral crystal oscillator output. Connect to an external 26/30 MHz crystal or to an external clock source. If using an external clock source with no crystal, dc coupling with a nominal 0.8 VDC level is recommended with a minimum ac amplitude of 700 mVpp. Refer to AN417 for more details about using an external clock source.", 62 XIN "EZRadio peripheral crystal oscillator input. Connect to an external 26/30 MHz crystal or leave floating if driving the XOUT pin with an external signal source.", 63 GPIO2 (io) "General Purpose Digital I/O for the radio. May be configured to perform various EZRadio functions, including Clock Output, FIFO Status, POR, Wake-up Timer, TRSW, AntDiversity control, etc.", 64 GPIO3 (io) "General Purpose Digital I/O for the radio. May be configured to perform various EZRadio functions, including Clock Output, FIFO Status, POR, Wake-up Timer, TRSW, AntDiversity control, etc."
part B pins: 7 RFVDD_2 (power) "+1.8 to +3.6 V Supply Voltage Input to Internal Regulators for the Radio. The recommended VDD supply voltage is +3.3 V.", 9 RFVDD_1 (power) "+1.8 to +3.6 V Supply Voltage Input to Internal Regulators for the Radio. The recommended VDD supply voltage is +3.3 V.", 12 IOVDD_0 (power) "Digital IO power supply 0.", 24 AVDD_1 (power) "Analog power supply 1.", 27 IOVDD_3 (power) "Digital IO power supply 3.", 28 AVDD_0 (power) "Analog power supply 0.", 40 VDD_DREG (power) "Power supply for on-chip voltage regulator.", 46 USB_VREGI (power), 47 USB_VREGO (power), 54 USB_VBUS (power) "USB 5.0 V VBUS input.", 57 IOVDD_5 (power) "Digital IO power supply 5.", 65 VSS (power) "Ground."

## SOLDER-PAD-2POS-BOTTOM
designator *  (value not drawn)
footprint SOLDER-PAD-2POS-BOTTOM
pins: 0, 1

## SP0505BAHTG
designator D?
IC DIODE TRANS VOLT SUPPR 5 PACKAGE; Supplier 1: Farnell; Supplier 2: Digi-Key; Supplier Part Number 1: 1827636; Supplier Part Number 2: F2716CT-ND
footprint SOT23-6 (SOT143-4 as used in SP0503BAHTG)
pins: 1, 2, 3, 4, 5, 6

## TP-TOP
designator TP?
pins: 0

## TSX-3225
designator *, comment Xtal  value 16MHz
XTAL TSX-3225 SM RADIO REF XTAL; Supplier 1: Digi-Key; Supplier Part Number 1: SER3636CT-ND
footprint TSX-3225 (SMT Shielded Crystal)
pins: 1, 3

## U.FL-R-SMT(10)
designator *  Supplier Part Number 1: H9161TR-ND
CONN SM uFL; Supplier 1: Digi-Key
footprint uFL SMT (Surface Mount uFL connector)
pins: GND, SIG

## WE-TPC-S-744031004
designator L?, comment value 4u7  (hidden comment: Inductor)
IND SM 3816 4u7 20%; Tolerance: ±30%; Imax: 50mA; DCR: 0.105; Isat: 900mA
footprint WE-TPC-S (Wurth Electronics TPC power inductor size s)
pins: 1, 2

## ZX62D-B-5PA8
designator J?
CONN SM TH USB Micro
footprint ZX62D-B-5PA8
pins: 0 CONN, 1 VCC, 2 D-, 3 D+, 4 ID, 5 GND